# EAGLE library part CON-IDC (library PowerTechLIB2)
PowerTech IDC Con
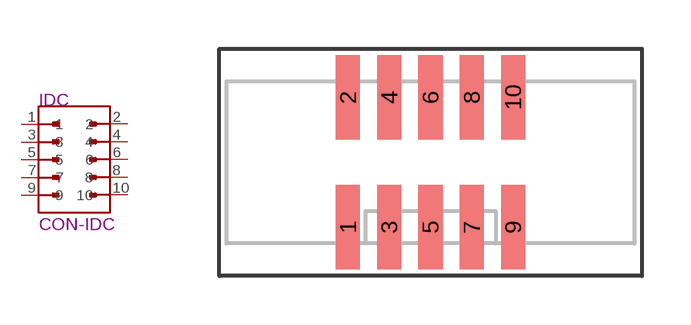
[diagram p13: symbol with the pads of IDC-10PIN; footprint IDC-10PIN]

Designator prefix IDC

## CON-IDC-JTAG  [IDC-10PIN]
1  1
2  2
3  3
4  4
5  5
6  6
7  7
8  8
9  9
10  10

## Footprint IDC-10PIN (pad centres in mm)
smd 0.74 x 2.6: 1 -2.54,-2; 2 -2.54,2; 3 -1.27,-2; 4 -1.27,2; 5 0,-2; 6 0,2; 7 1.27,-2; 8 1.27,2; 9 2.54,-2; 10 2.54,2